# Altium footprint library PcbLib1.PcbLib: 1 footprints
Each footprint in its own frame and in the unit in brackets; x right, y up, seen from the top. Pads: shape width x height; smd on the part's side, far side on the other; paste and mask are expansions set on the pad; w line width, h text height; cw(c..) or ccw(c..) is an arc to the next point about the centre after c.
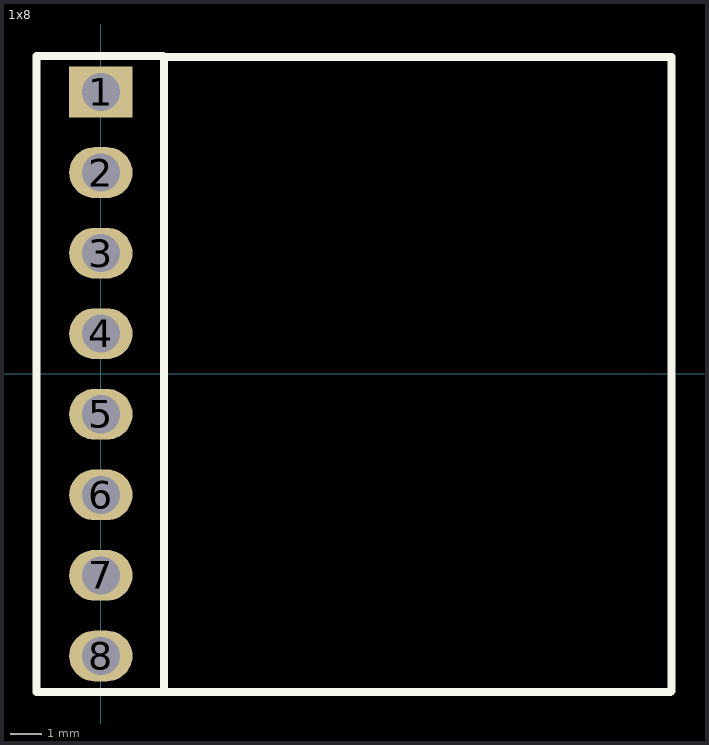
[diagram p0: the footprint, top view; thin cyan lines are the x and y axes]

## 1x8 [mm]
pads (8):
  rect 2x1.6 hole 1.2: 1(0,8.89)
  oval 2x1.6 hole 1.2: 2(0,6.35) 3(0,3.81) 4(0,1.27) 5(0,-1.27) 6(0,-3.81) 7(0,-6.35) 8(0,-8.89)
Top Overlay:
  lines w0.254: 1.968,10.032 -2.032,10.032 -2.032,-10.033 2.033,-10.033 ; 2.033,-10.033 17.78,-10.033 17.966,-10.033 18,-9.999 18,-9.813 18,9.745 18,9.999 17.999,10 17.745,10 2,10 2,-10 2.033,-10.033